# Altium schematic symbol library acopians-powerspy-monitoring-hw-library-schematic.SchLib: 114 symbols
Pins are listed as number, name and electrical type; pins without a type are passive.

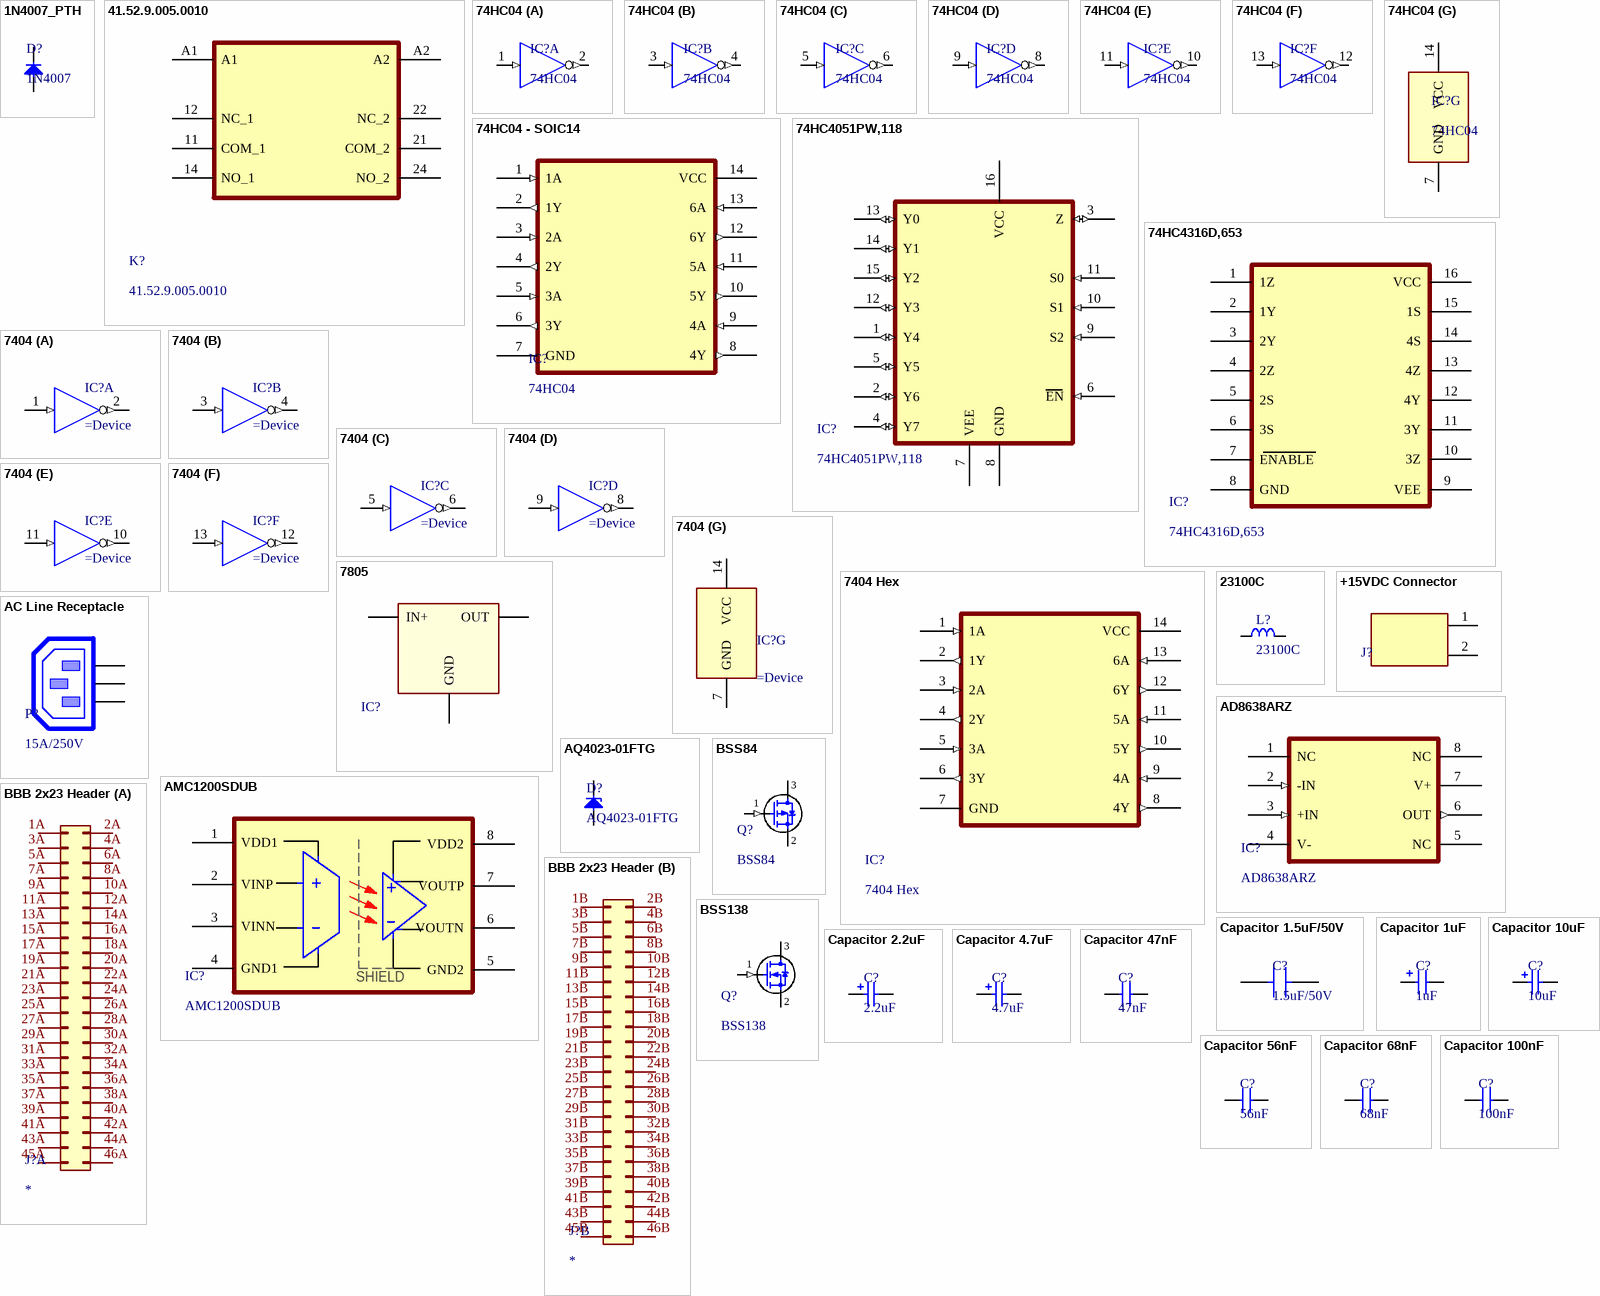
[diagram p0: symbols 1N4007_PTH to Capacitor 100nF]

## 1N4007_PTH
designator D?, comment 1N4007
footprint DIODE 1N4007 (Retifier Diode 1N4007)
pins: 1, 2

## 41.52.9.005.0010
designator K?
Low Profile PCB Relay, 2 CO DPDT, 8A, Coil: 5VDC
footprint 41.52.9.005.0010 (Low Profile PCB Relay, 2 CO DPDT, 8A, Coil: 5VDC)
pins: 11 COM_1, 12 NC_1, 14 NO_1, 21 COM_2, 22 NC_2, 24 NO_2, A1, A2

## 74HC04
designator IC?
Hex Inverter
footprint DIP14
part A pins: 1 (in), 2 (out)
part B pins: 3 (in), 4 (out)
part C pins: 5 (in), 6 (out)
part D pins: 8 (out), 9 (in)
part E pins: 10 (out), 11 (in)
part F pins: 12 (out), 13 (in)
part G pins: 7 GND (power), 14 VCC (power)

## 74HC04 - SOIC14
designator IC?, comment 74HC04
SOIC14
footprint SOIC-14
pins: 1 1A (in), 2 1Y (out), 3 2A (in), 4 2Y (out), 5 3A (in), 6 3Y (out), 7 GND, 8 4Y (out), 9 4A (in), 10 5Y (out), 11 5A (in), 12 6Y (out), 13 6A (in), 14 VCC

## 74HC4051PW,118
designator IC?
8-channel analog multiplexer, TSSOP-16
footprint TSSOP-16
pins: 1 Y4 (io), 2 Y6 (io), 3 Z (io), 4 Y7 (io), 5 Y5 (io), 6 EN (in), 7 VEE, 8 GND, 9 S2 (in), 10 S1 (in), 11 S0 (in), 12 Y3 (io), 13 Y0 (io), 14 Y1 (io), 15 Y2 (io), 16 VCC

## 74HC4316D,653
designator IC?
Analog Switch Quad-SPST, 16 pins; Supplier 1: Mouser; Supplier Part Number 1: 771-74HC4316D-T
pins: 1 1Z, 2 1Y, 3 2Y, 4 2Z, 5 2S, 6 3S, 7 ENABLE, 8 GND, 9 VEE, 10 3Z, 11 3Y, 12 4Y, 13 4Z, 14 4S, 15 1S, 16 VCC

## 7404
designator IC?
Hex Inverter
footprint DIP14
pins on every part: 7 GND (power) hidden to GND, 14 VCC (power) hidden to VCC
part A pins: 1 A (in), 2 ~{O} (out)
part B pins: 3 A (in), 4 ~{O} (out)
part C pins: 5 A (in), 6 ~{O} (out)
part D pins: 8 ~{O} (out), 9 A (in)
part E pins: 10 ~{O} (out), 11 A (in)
part F pins: 12 ~{O} (out), 13 A (in)
part G pins: 7 GND (power), 14 VCC (power)

## 7404 Hex
designator IC?
footprint DIP14
pins: 1 1A (in), 2 1Y (out), 3 2A (in), 4 2Y (out), 5 3A (in), 6 3Y (out), 7 GND, 8 4Y (out), 9 4A (in), 10 5Y (out), 11 5A (in), 12 6Y (out), 13 6A (in), 14 VCC

## 7805
designator IC?
footprint SOT_223_4_REGULATOR
pins: 1 IN+, 2 GND, 3 OUT

## 23100C
designator L?
Bobbin Wound Surface Mount Inductors, 10uH, 138mOhms, Imax 1.02A
footprint 23100C
pins: 1, 2

## +15VDC Connector
designator J?  (value not drawn)
footprint +15VDC Connector
pins: 1, 2

## AC Line Receptacle
designator P?, comment 15A/250V
IEC Power Inlet with Line Cord 18/3 250V.
pins: 9, 10, 11

## AD8638ARZ
designator IC?
16V, Auto-Zero, Rail-to-Rail Output Operational Amplifiers
footprint SOIC-8
pins: 1 NC, 2 -IN (in), 3 +IN (in), 4 V-, 5 NC, 6 OUT (out), 7 V+, 8 NC

## AMC1200SDUB
designator IC?
Fully-Differential Isolation Amplifier
footprint SOP-8
pins: 1 VDD1, 2 VINP, 3 VINN, 4 GND1, 5 GND2, 6 VOUTN, 7 VOUTP, 8 VDD2
text: +; SHIELD

## AQ4023-01FTG
designator D?
Unidirectional TVS DIode, 12A, 1.3pF
footprint SOD-323
pins: 1, 2

## BBB 2x23 Header
designator J?
footprint BBB 2x23 Header
part A pins: 1A Pin_1, 2A Pin_2, 3A Pin_3, 4A Pin_4, 5A Pin_5, 6A Pin_6, 7A Pin_7, 8A Pin_8, 9A Pin_9, 10A Pin_10, 11A Pin_11, 12A Pin_12, 13A Pin_13, 14A Pin_14, 15A Pin_15, 16A Pin_16, 17A Pin_17, 18A Pin_18, 19A Pin_19, 20A Pin_20, 21A Pin_21, 22A Pin_22, 23A Pin_23, 24A Pin_24, 25A Pin_25, 26A Pin_26, 27A Pin_27, 28A Pin_28, 29A Pin_29, 30A Pin_30, 31A Pin_31, 32A Pin_32, 33A Pin_33, 34A Pin_34, 35A Pin_35, 36A Pin_36, 37A Pin_37, 38A Pin_38, 39A Pin_39, 40A Pin_40, 41A Pin_41, 42A Pin_42, 43A Pin_43, 44A Pin_44, 45A Pin_45, 46A Pin_46
part B pins: 1B Pin_1, 2B Pin_2, 3B Pin_3, 4B Pin_4, 5B Pin_5, 6B Pin_6, 7B Pin_7, 8B Pin_8, 9B Pin_9, 10B Pin_10, 11B Pin_11, 12B Pin_12, 13B Pin_13, 14B Pin_14, 15B Pin_15, 16B Pin_16, 17B Pin_17, 18B Pin_18, 19B Pin_19, 20B Pin_20, 21B Pin_21, 22B Pin_22, 23B Pin_23, 24B Pin_24, 25B Pin_25, 26B Pin_26, 27B Pin_27, 28B Pin_28, 29B Pin_29, 30B Pin_30, 31B Pin_31, 32B Pin_32, 33B Pin_33, 34B Pin_34, 35B Pin_35, 36B Pin_36, 37B Pin_37, 38B Pin_38, 39B Pin_39, 40B Pin_40, 41B Pin_41, 42B Pin_42, 43B Pin_43, 44B Pin_44, 45B Pin_45, 46B Pin_46

## BSS84
designator Q?
MOSFET P-Channel
footprint SOT_23_3
pins: 1 G (in), 2 S, 3 D

## BSS138
designator Q?
MOSFET N-Channel; Supplier 1: Digi-Key; Supplier Part Number 1: BSS138DKR-ND
footprint SOT_23_3
pins: 1 G (in), 2 S, 3 D

## Capacitor 1.5uF/50V
designator C?, comment 1.5uF/50V
1.5uF/50V, Z5U
pins: 1, 2

## Capacitor 1uF
designator C?, comment 1uF
footprint C1206
pins: 1, 2

## Capacitor 2.2uF
designator C?, comment 2.2uF
footprint C1206
pins: 1, 2

## Capacitor 4.7uF
designator C?, comment 4.7uF
footprint C1206
pins: 1, 2

## Capacitor 10uF
designator C?, comment 10uF
footprint C1206
pins: 1, 2

## Capacitor 47nF
designator C?, comment 47nF
footprint C0805
pins: 1, 2

## Capacitor 56nF
designator C?, comment 56nF
footprint C0805
pins: 1, 2

## Capacitor 68nF
designator C?, comment 68nF
footprint C0805
pins: 1, 2

## Capacitor 100nF
designator C?, comment 100nF
footprint C0805
pins: 1, 2

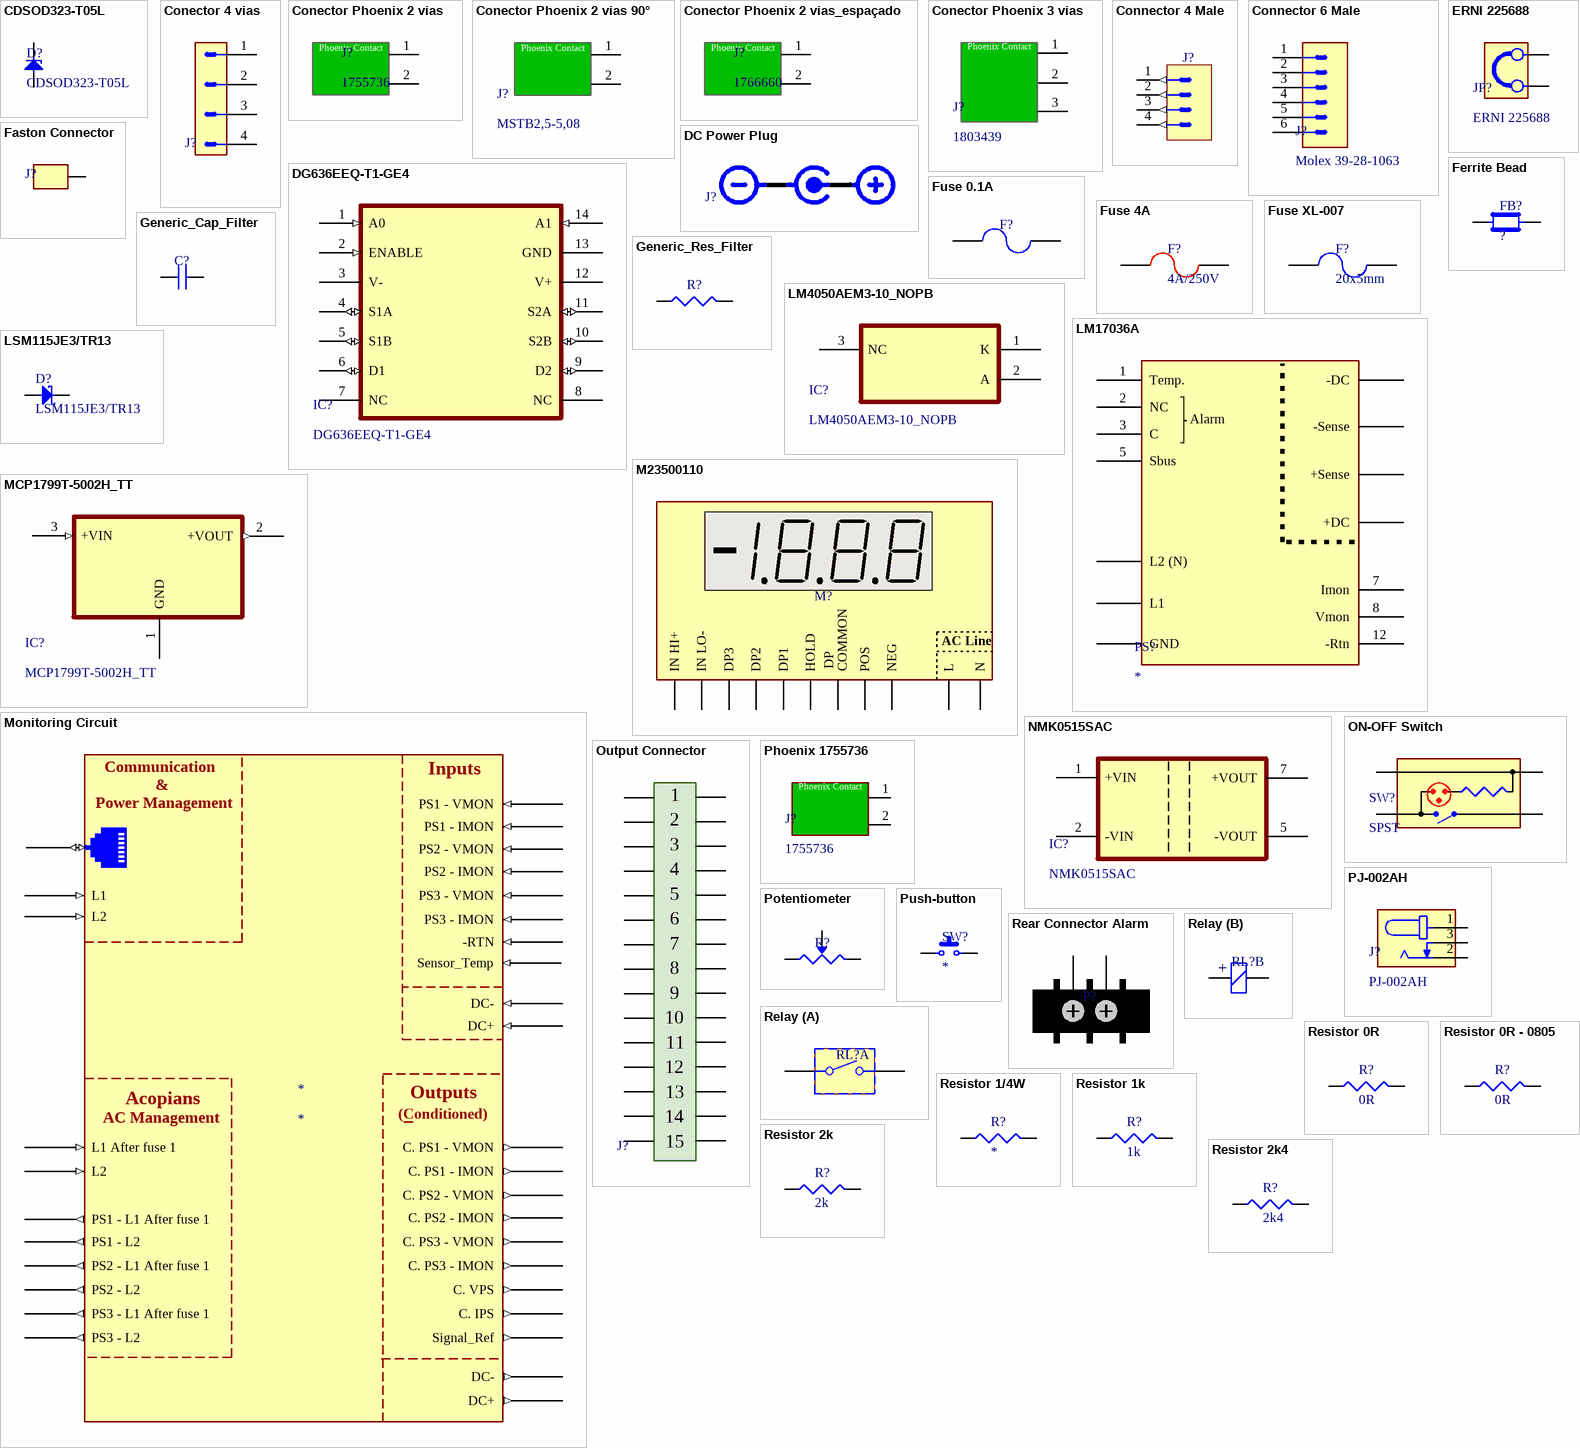
[diagram p1: symbols CDSOD323-T05L to Resistor 2k4]

## CDSOD323-T05L
designator D?
Unidirectional TVS Diode; Supplier 1: Avnet; Supplier Part Number 1: CDSOD323-T05L
footprint SOD-323
pins: 1, 2

## Conector 4 vias
designator J?
footprint MOLEX_39-28-1043 (4.20mm (.165") Pitch Mini-Fit Jr. Header, Dual Row, Vertical, without Snap-in Plastic Peg PCB Lock, 4 Circuits)
pins: 1, 2, 3, 4

## Conector Phoenix 2 vias
designator J?, comment 1755736
footprint Conector 2 vias
pins: 1, 2
text: Phoenix Contact

## Conector Phoenix 2 vias 90°
designator J?, comment MSTB2,5-5,08
Conector Phoenix 2 vias 90°
footprint HDR_Male_2x5.08mm
pins: 1, 2
text: Phoenix Contact

## Conector Phoenix 2 vias_espaçado
designator J?, comment 1766660
Pitch 7.5mm
footprint Conector 2 vias espaçado
pins: 1, 2
text: Phoenix Contact

## Conector Phoenix 3 vias
designator J?, comment 1803439
footprint Conector Phoenix 3 vias (1803439)
pins: 1, 2, 3
text: Phoenix Contact

## Connector 4 Male
designator J?, comment Molex 39-28-1043  (value not drawn)
Connector 4 Male
pins: 1 (out), 2 (out), 3 (out), 4 (out)
1 alternate drawing of the same symbol

## Connector 6 Male
designator J?, comment Molex 39-28-1063
footprint MOLEX_39-28-1063 (4.20mm (.165") Pitch Mini-Fit Jr. Header, Dual Row, Vertical, without Snap-in Plastic Peg PCB Lock, 6 Circuits)
pins: 1, 2, 3, 4, 5, 6

## DC Power Plug
designator J?  (value not drawn)  (graphical)
pins: 1 GND, 2 +VCC

## DG636EEQ-T1-GE4
designator IC?
Analog Switch Dual-SPDT, 14 pins; Supplier 1: Newark; Supplier Part Number 1: 56AJ9808
footprint TSSOP-14
pins: 1 A0 (in), 2 ENABLE (in), 3 V-, 4 S1A (io), 5 S1B (io), 6 D1 (io), 7 NC, 8 NC, 9 D2 (io), 10 S2B (io), 11 S2A (io), 12 V+, 13 GND, 14 A1 (in)

## ERNI 225688
designator JP?
footprint ERNI 225688
pins: 1, 2

## Faston Connector
designator J?
footprint Faston Connector
pins: 1

## Ferrite Bead
designator FB?, comment ?
footprint R1210
pins: 1, 2

## Fuse 0.1A
designator F?, comment 100mA/250V  (value not drawn)
Littelfuse type 313 or equivalent.
pins: ?1, F?

## Fuse 4A
designator F?, comment 4A/250V
Littelfuse type 313 or equivalent.
pins: ?1, F?

## Fuse XL-007
designator F?, comment 20x5mm
Footprint: ZH242 (Metaltex)
footprint Fuse XL-007
pins: ?1, F?

## Generic_Cap_Filter
designator C?
footprint C1210
pins: 1, 2

## Generic_Res_Filter
designator R?
footprint R1210
pins: 1, 2

## LM4050AEM3-10_NOPB
designator IC?
Precision Micropower Shunt Voltage Reference
footprint SOT_23_3
pins: 1 K, 2 A, 3 NC

## LM17036A
designator PS?
Acopian PS
pins: 1 Temp., 2 NC, 3 C, 5 Sbus, 7 Imon, 8 Vmon, 12 -Rtn, ?1 L1, ?2 L2 (N), ?3 -DC, ?4 +DC, ?5 -Sense, ?6 +Sense, ?7 GND
text: Alarm

## LSM115JE3/TR13
designator D?
DIODE SCHOTTKY 15V, 1A, DO214BA
footprint DO-214BA
pins: 1 C, 2 A

## M23500110
designator M?  (value not drawn)
Simpson Mini-Max M235 Series Digital Panel Meter
pins: 1 IN HI+, 2 IN LO-, 3 DP3, 4 DP2, 5 DP1, 6 HOLD (power), 7, 8 POS (power), 9 NEG (power), 10 L (power), 11 N (power)
text: COMMON; AC Line; DP

## MCP1799T-5002H_TT
designator IC?
High-Voltage Automotive LDO, 80mA
footprint SOT_23_3
pins: 1 GND, 2 +VOUT (out), 3 +VIN (in)

## Monitoring Circuit
designator *
pins: 1 DC+ (in), 1 DC- (in), 1 PS1 - VMON (in), 1 PS1 - IMON (in), 1 PS2 - VMON (in), 1 PS2 - IMON (in), 1 PS3 - VMON (in), 1 PS3 - IMON (in), 1 -RTN (in), 1 C. PS1 - VMON (out), 1 C. PS1 - IMON (out), 1 C. PS2 - VMON (out), 1 C. PS2 - IMON (out), 1 C. PS3 - VMON (out), 1 C. PS3 - IMON (out), 1 Signal_Ref (out), 1 C. VPS (out), 1 C. IPS (out), 1 L1 After fuse 1 (in), 1 L2 (in), 1 PS1 - L1 After fuse 1 (out), 1 PS1 - L2 (out), 1 PS2 - L1 After fuse 1 (out), 1 PS2 - L2 (out), 1 PS3 - L1 After fuse 1 (out), 1 PS3 - L2 (out), 1 (io), 1 L1 (in), 1 L2 (in), 1 DC+ (out), 1 DC- (out), 1 Sensor_Temp (in)
text: Communication; Inputs; &; Power Management; Outputs; Acopians; (Conditioned); AC Management

## NMK0515SAC
designator IC?
3kVDC Isolated 2W Single Output DC-DC Converter
footprint NMK0515SAC
pins: 1 +VIN, 2 -VIN, 5 -VOUT, 7 +VOUT

## ON-OFF Switch
designator SW?, comment SPST
SPST 15A, 240V, Lighted AG/CDO.
pins: 2, 2, 2, 2

## Output Connector
designator J?  (value not drawn)
Phoenix Contact #1829468. / Mate connector #1803701.
pins: 1, 1, 1, 1, 1, 1, 1, 1, 1, 1, 1, 1, 1, 1, 1, 1, 1, 1, 1, 1, 1, 1, 1, 1, 1, 1, 1, 1, 1, 1
text: 2; 3; 4; 5; 6; 7; 8; 9; 10; 11; 12; 13; 14; 15

## Phoenix 1755736
designator J?, comment 1755736
Term Block HDR 2POS VERT 5.08MM
footprint Conector 2 vias
pins: 1, 2
text: Phoenix Contact

## PJ-002AH
designator J?
DC Power Jack Connector, 5.0A, Right-Angle Orientation, Through Hole, 2.0 x 6.5 mm
footprint PJ-002AH
pins: 1, 2, 3

## Potentiometer
designator R?  (value not drawn)
pins: 1, 2, 2

## Push-button
designator SW?
pins: 1, 1

## Rear Connector Alarm
designator P?
Rear Connector Alarm
pins: 5, 6

## Relay
designator RL?
part A pins: 1, 2
part B pins: 1, 2
part B text: +

## Resistor 0R
designator R?, comment 0R
Size 1210
footprint R1210
pins: 1, 2

## Resistor 0R - 0805
designator R?, comment 0R
Size 0805
footprint Resistor 0805
pins: 1, 2

## Resistor 1/4W
designator R?
pins: 1, 2

## Resistor 1k
designator R?, comment 1k
footprint Resistor 0805
pins: 1, 2

## Resistor 2k
designator R?, comment 2k
footprint Resistor 0805
pins: 1, 2

## Resistor 2k4
designator R?, comment 2k4
footprint Resistor 0805
pins: 1, 2

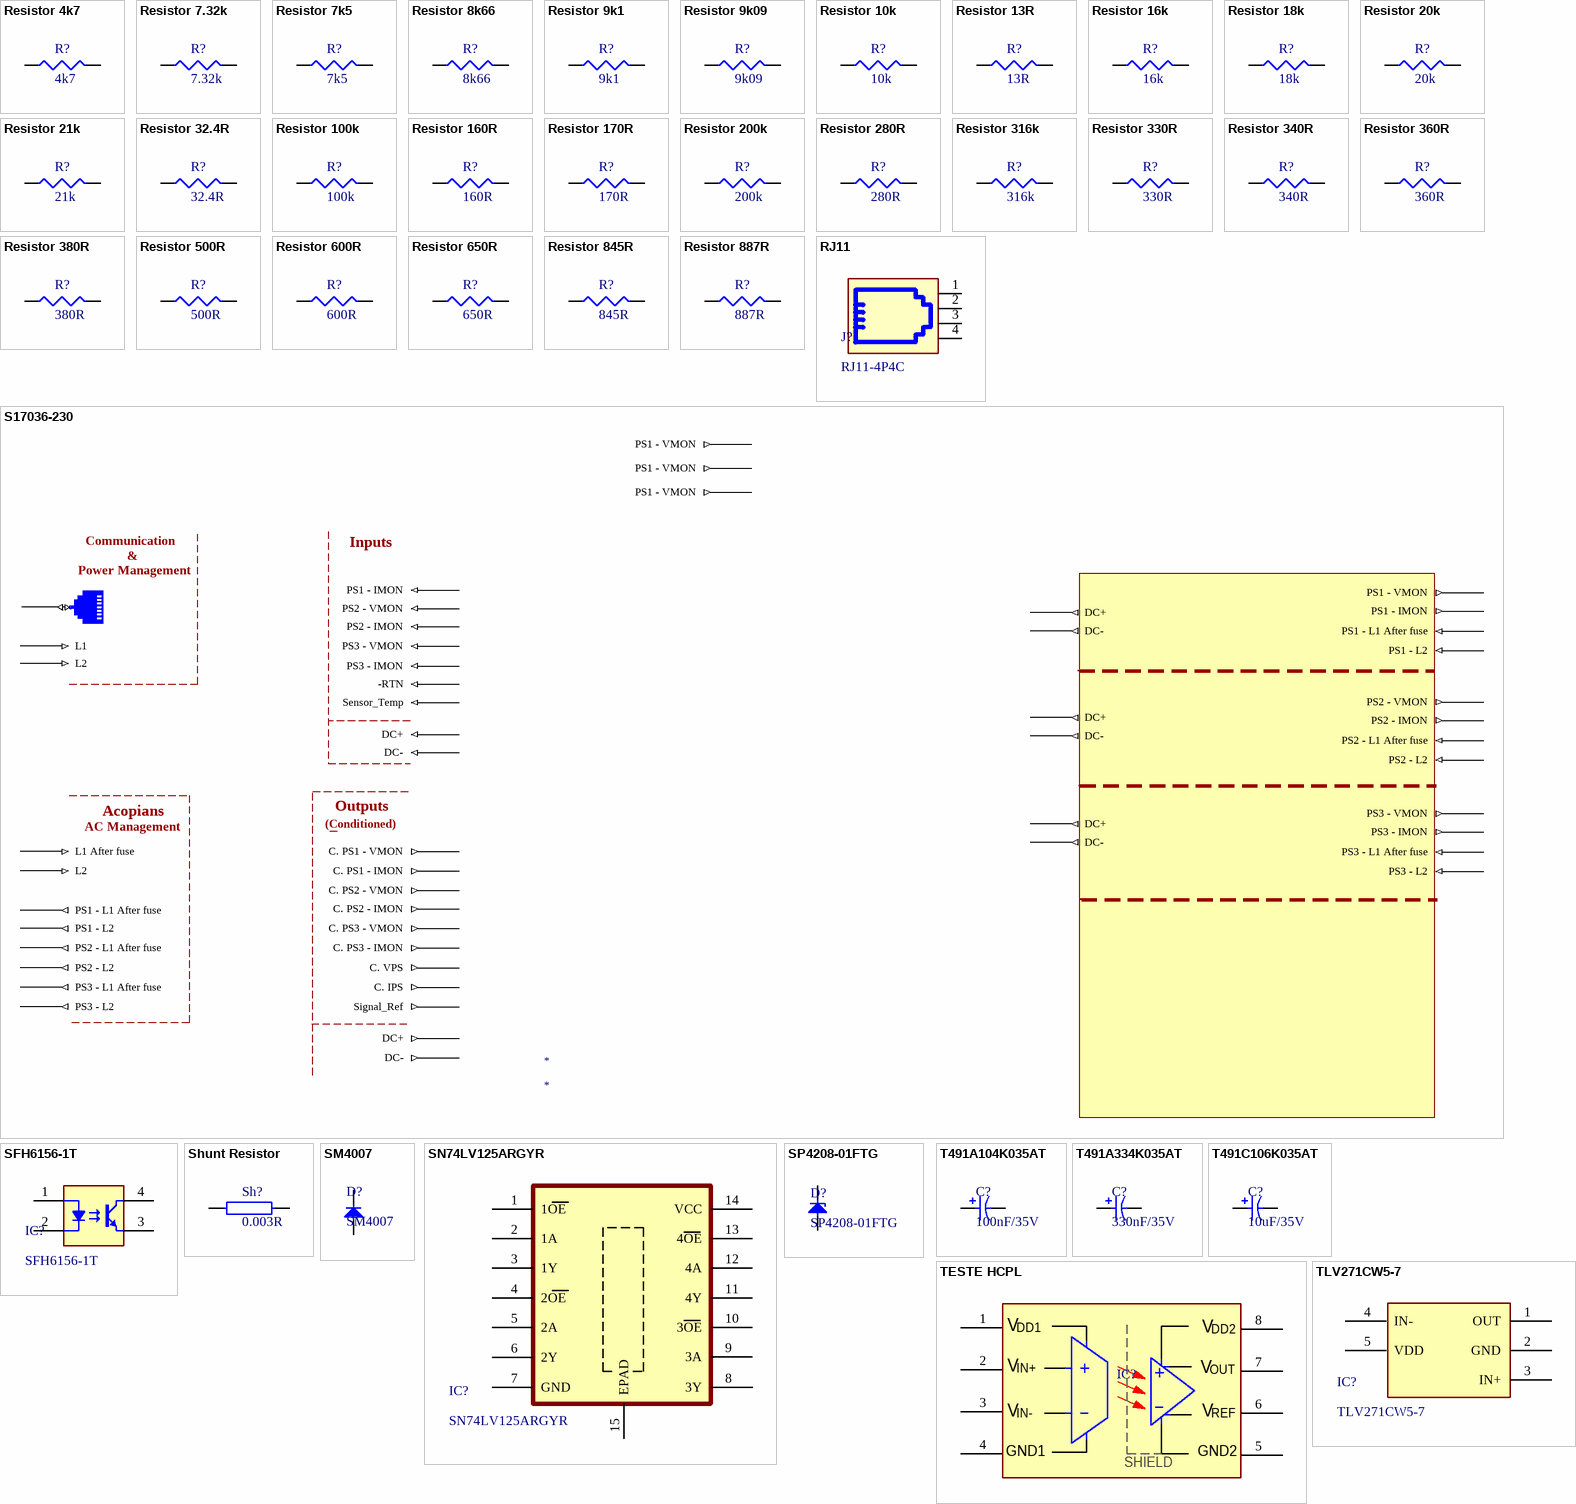
[diagram p2: symbols Resistor 4k7 to TLV271CW5-7]

## Resistor 4k7
designator R?, comment 4k7
Size 0805
footprint Resistor 0805
pins: 1, 2

## Resistor 7.32k
designator R?, comment 7.32k
footprint Resistor 0805
pins: 1, 2

## Resistor 7k5
designator R?, comment 7k5
footprint Resistor 0805
pins: 1, 2

## Resistor 8k66
designator R?, comment 8k66
footprint Resistor 0805
pins: 1, 2

## Resistor 9k1
designator R?, comment 9k1
footprint Resistor 0805
pins: 1, 2

## Resistor 9k09
designator R?, comment 9k09
footprint Resistor 0805
pins: 1, 2

## Resistor 10k
designator R?, comment 10k
footprint Resistor 0805
pins: 1, 2

## Resistor 13R
designator R?, comment 13R
footprint Resistor 0805
pins: 1, 2

## Resistor 16k
designator R?, comment 16k
footprint Resistor 0805
pins: 1, 2

## Resistor 18k
designator R?, comment 18k
footprint Resistor 0805
pins: 1, 2

## Resistor 20k
designator R?, comment 20k
footprint Resistor 0805
pins: 1, 2

## Resistor 21k
designator R?, comment 21k
footprint Resistor 0805
pins: 1, 2

## Resistor 32.4R
designator R?, comment 32.4R
footprint Resistor 0805
pins: 1, 2

## Resistor 100k
designator R?, comment 100k
footprint Resistor 0805
pins: 1, 2

## Resistor 160R
designator R?, comment 160R
footprint Resistor 0805
pins: 1, 2

## Resistor 170R
designator R?, comment 170R
Size 1210
footprint R1210
pins: 1, 2

## Resistor 200k
designator R?, comment 200k
Size 0805
footprint Resistor 0805
pins: 1, 2

## Resistor 280R
designator R?, comment 280R
footprint Resistor 0805
pins: 1, 2

## Resistor 316k
designator R?, comment 316k
footprint Resistor 0805
pins: 1, 2

## Resistor 330R
designator R?, comment 330R
footprint Resistor 0805
pins: 1, 2

## Resistor 340R
designator R?, comment 340R
footprint Resistor 0805
pins: 1, 2

## Resistor 360R
designator R?, comment 360R
footprint Resistor 0805
pins: 1, 2

## Resistor 380R
designator R?, comment 380R
Size 0805
footprint Resistor 0805
pins: 1, 2

## Resistor 500R
designator R?, comment 500R
footprint Resistor 0805
pins: 1, 2

## Resistor 600R
designator R?, comment 600R
footprint Resistor 0805
pins: 1, 2

## Resistor 650R
designator R?, comment 650R
footprint Resistor 0805
pins: 1, 2

## Resistor 845R
designator R?, comment 845R
footprint Resistor 0805
pins: 1, 2

## Resistor 887R
designator R?, comment 887R
footprint Resistor 0805
pins: 1, 2

## RJ11
designator J?, comment RJ11-4P4C
MC114268 JACK RJ11 4P4C PARA PLACA 14.5X10X12MM, CODIGO YH55-01, DAIER
footprint YH55-01
pins: 1, 2, 3, 4

## S17036-230
designator *
pins: 1 DC- (in), 1 DC+ (in), 1 Sensor_Temp (in), 1 PS1 - VMON (out), 1 PS1 - IMON (in), 1 PS2 - VMON (in), 1 PS2 - IMON (in), 1 PS3 - VMON (in), 1 PS3 - IMON (in), 1 -RTN (in), 1 C. PS1 - VMON (out), 1 C. PS1 - IMON (out), 1 C. PS2 - VMON (out), 1 C. PS2 - IMON (out), 1 C. PS3 - VMON (out), 1 C. PS3 - IMON (out), 1 Signal_Ref (out), 1 C. VPS (out), 1 C. IPS (out), 1 L1 After fuse (in), 1 L2 (in), 1 PS1 - L1 After fuse (out), 1 PS1 - L2 (out), 1 PS2 - L1 After fuse (out), 1 PS2 - L2 (out), 1 PS3 - L1 After fuse (out), 1 PS3 - L2 (out), 1 (io), 1 L1 (in), 1 L2 (in), 1 DC- (out), 1 DC+ (out), 1 PS1 - VMON (out), 1 PS1 - VMON (out), 1 PS1 - VMON (out), 1 PS1 - IMON (out), 1 PS1 - L1 After fuse (in), 1 PS1 - L2 (in), 1 PS2 - VMON (out), 1 PS2 - IMON (out), 1 PS2 - L1 After fuse (in), 1 PS2 - L2 (in), 1 PS3 - VMON (out), 1 PS3 - IMON (out), 1 PS3 - L1 After fuse (in), 1 PS3 - L2 (in), 1 DC+ (out), 1 DC- (out), 1 DC+ (out), 1 DC- (out), 1 DC+ (out), 1 DC- (out)
text: Communication; Inputs; &; Power Management; Outputs; Acopians; (Conditioned); AC Management

## SFH6156-1T
designator IC?
Optocoupler 1 Channel, Phototransistor Output, SMD-4
footprint SMD-4
pins: 1 A, 2 C, 3 E (oe), 4 C (oc)

## Shunt Resistor
designator Sh?, comment 0.003R
pins: 1, 2

## SM4007
designator D?
footprint SM4007
pins: 1, 2

## SN74LV125ARGYR
designator IC?
Quadruple Bus Buffer Gates With 3-State Outputs
footprint VQFN-14
pins: 1 1OE, 2 1A, 3 1Y, 4 2OE, 5 2A, 6 2Y, 7 GND, 8 3Y, 9 3A, 10 3OE, 11 4Y, 12 4A, 13 4OE, 14 VCC, 15 EPAD

## SP4208-01FTG
designator D?
Unidirectional TVS Diode; Supplier 1: Newark; Supplier Part Number 1: 54AH3799
footprint SOD-323
pins: 1, 2

## T491A104K035AT
designator C?, comment 100nF/35V
footprint C1206
pins: 1, 2

## T491A334K035AT
designator C?, comment 330nF/35V
footprint C1206
pins: 1, 2

## T491C106K035AT
designator C?, comment 10uF/35V
footprint C2413
pins: 1, 2

## TESTE HCPL
designator IC?  (value not drawn)
pins: 1 VDD1, 2, 3, 4, 5, 6, 7, 8
text: V; DD1; DD2; IN+; OUT; +; IN-; REF; GND1; GND2; SHIELD

## TLV271CW5-7
designator IC?
AmpOp; Supplier 1: Newark; Supplier Part Number 1: 64AH9015
pins: 1 OUT, 2 GND, 3 IN+, 4 IN-, 5 VDD

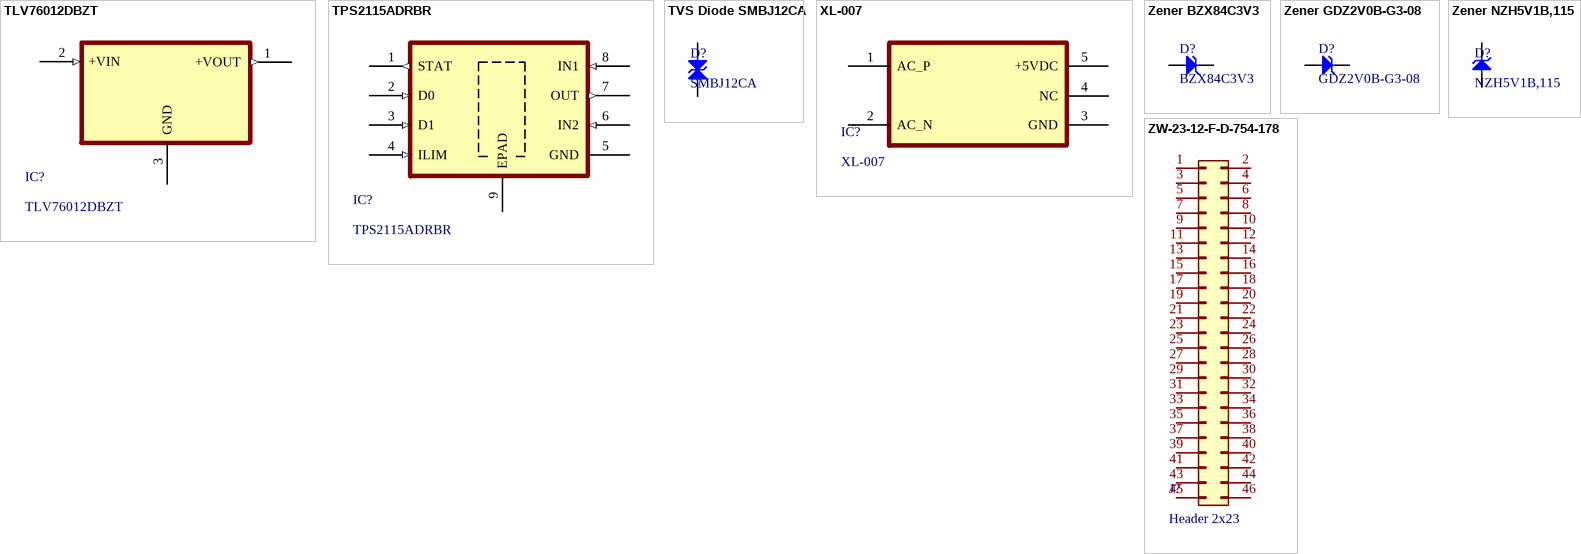
[diagram p3: symbols TLV76012DBZT to ZW-23-12-F-D-754-178]

## TLV76012DBZT
designator IC?
Linear-Voltage Regulator, +12V Fixed-Output, 100mA
footprint SOT_23_3
pins: 1 +VOUT (out), 2 +VIN (in), 3 GND

## TPS2115ADRBR
designator IC?
Auto Switching Power Mux; Supplier 1: Arrow Electronics; Supplier Part Number 1: TPS2115ADRBR
footprint VSON-8
pins: 1 STAT (out), 2 D0 (in), 3 D1 (in), 4 ILIM (in), 5 GND, 6 IN2 (in), 7 OUT (out), 8 IN1 (in), 9 EPAD

## TVS Diode SMBJ12CA
designator D?, comment SMBJ12CA
pins: 1, 2

## XL-007
designator IC?
AC-DC Converter (220VAC to +5VDC)
footprint XL-007
pins: 1 AC_P, 2 AC_N, 3 GND, 4 NC, 5 +5VDC

## Zener BZX84C3V3
designator D?, comment BZX84C3V3
Zener Diode 3V3
pins: 1, 2

## Zener GDZ2V0B-G3-08
designator D?, comment GDZ2V0B-G3-08
Supplier 1: Arrow Electronics; Supplier Part Number 1: GDZ2V0B-G3-08
footprint SOD-323
pins: 1, 2

## Zener NZH5V1B,115
designator D?, comment NZH5V1B,115
5.1V, SOD-123F-2
footprint SOD-123F-2
pins: 1, 2

## ZW-23-12-F-D-754-178
designator J?, comment Header 2x23
footprint ZW-23-12-F-D-754-178
pins: 1 Pin_1, 2 Pin_2, 3 Pin_3, 4 Pin_4, 5 Pin_5, 6 Pin_6, 7 Pin_7, 8 Pin_8, 9 Pin_9, 10 Pin_10, 11 Pin_11, 12 Pin_12, 13 Pin_13, 14 Pin_14, 15 Pin_15, 16 Pin_16, 17 Pin_17, 18 Pin_18, 19 Pin_19, 20 Pin_20, 21 Pin_21, 22 Pin_22, 23 Pin_23, 24 Pin_24, 25 Pin_25, 26 Pin_26, 27 Pin_27, 28 Pin_28, 29 Pin_29, 30 Pin_30, 31 Pin_31, 32 Pin_32, 33 Pin_33, 34 Pin_34, 35 Pin_35, 36 Pin_36, 37 Pin_37, 38 Pin_38, 39 Pin_39, 40 Pin_40, 41 Pin_41, 42 Pin_42, 43 Pin_43, 44 Pin_44, 45 Pin_45, 46 Pin_46